# Altium schematic symbol library U_ZXCT1110.SchLib: 1 symbol
Pins are listed as number, name and electrical type; pins without a type are passive.

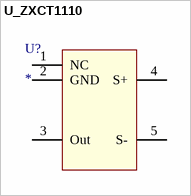
[diagram p0: symbol U_ZXCT1110]

## U_ZXCT1110
designator U?
pins: 1 NC "No Connection", 2 GND, 3 Out "Current Output", 4 S+ "Positive Input", 5 S- "Negative Input"